# Altium footprint library Quadcopter  Integrated.PcbLib: 1 footprints
Each footprint in its own frame and in the unit in brackets; x right, y up, seen from the top. Pads: shape width x height; smd on the part's side, far side on the other; paste and mask are expansions set on the pad; w line width, h text height; cw(c..) or ccw(c..) is an arc to the next point about the centre after c.
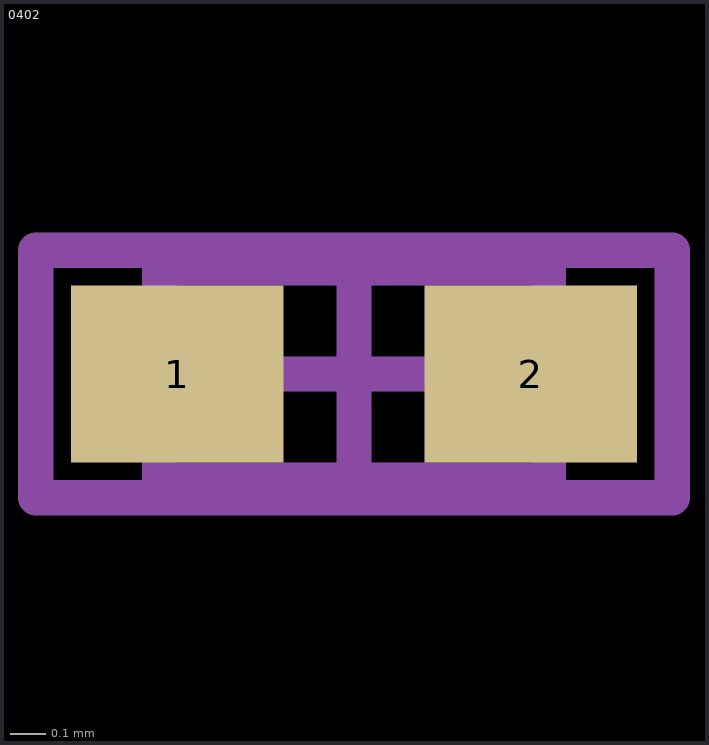
[diagram p0: the footprint, top view; thin cyan lines are the x and y axes]

## 0402 [mm]
height 0.033
pads (2):
  rect 0.6x0.5 smd: 1(10.295,-13.97) 2(11.295,-13.97)
Mechanical 13:
  lines w0.1: 10.245,-14.27 11.345,-14.27 11.345,-13.67 10.245,-13.67 10.245,-14.27
Mechanical 15:
  lines w0.1: 10.495,-13.97 11.095,-13.97 ; 10.795,-14.27 10.795,-13.67 ; 9.895,-14.32 11.695,-14.32 11.695,-13.62 9.895,-13.62 9.895,-14.32
3D body: height 1.3, standoff 0, extent 10.245,-14.27 11.345,-13.67